# EAGLE library part MCP6002 (library general)
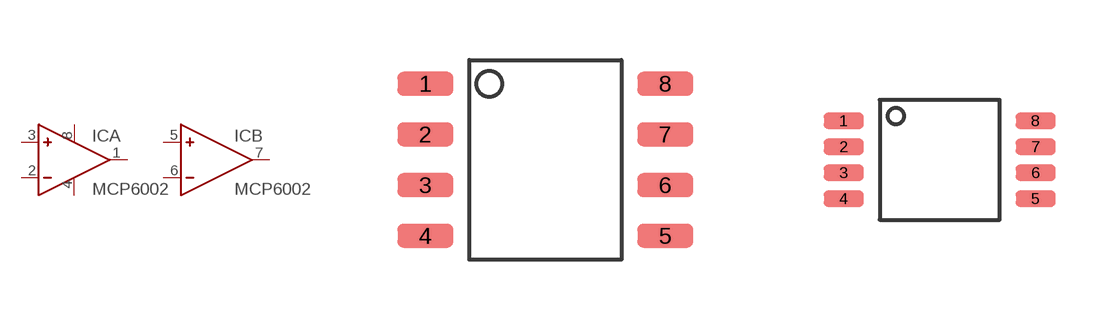
[diagram p6: symbol with the pads of SOIC8_2; footprints SOIC8_2, MSOP8]

Designator prefix IC; gates A=OPAMP_VCC_GND B=OPAMP

## MCP6002_X/SL  [SOIC8_2]
1  A:OUT
2  A:IN-
3  A:IN+
4  A:VSS
5  B:IN+
6  B:IN-
7  B:OUT
8  A:VDD

## MCP6002_X/MS  [MSOP8]
Pads as for SOIC8_2

## Footprint SOIC8_2 (pad centres in mm)
smd 1.4 x 0.6: 1 -3,1.905; 2 -3,0.635; 3 -3,-0.635; 4 -3,-1.905; 5 3,-1.905; 6 3,-0.635; 7 3,0.635; 8 3,1.905

## Footprint MSOP8 (pad centres in mm)
smd 1 x 0.4: 1 -2.4,0.975; 2 -2.4,0.325; 3 -2.4,-0.325; 4 -2.4,-0.975; 5 2.4,-0.975; 6 2.4,-0.325; 7 2.4,0.325; 8 2.4,0.975